# EAGLE library part ADS7816U (library adc)
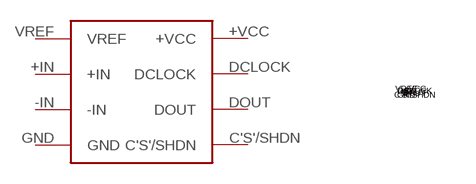
[diagram p0: symbol with the pads of 8-SOIC; footprint 8-SOIC]

Designator prefix -

## ADS7816U  [8-SOIC]
+IN  +IN
+VCC  +VCC
-IN  -IN
C'S'/SHDN  C'S'/SHDN
DCLOCK  DCLOCK
DOUT  DOUT
GND  GND
VREF  VREF

## Footprint 8-SOIC (pad centres in mm)
smd 0.061 x 0.024: +IN -0.106,0.025; +VCC 0.106,0.075; -IN -0.106,-0.025; C'S'/SHDN 0.106,-0.075; DCLOCK 0.106,0.025; DOUT 0.106,-0.025; GND -0.106,-0.075; VREF -0.106,0.075